# Altium schematic symbol library IC - LR30-433M22S.SchLib: 1 symbol
Pins are listed as number, name and electrical type; pins without a type are passive.

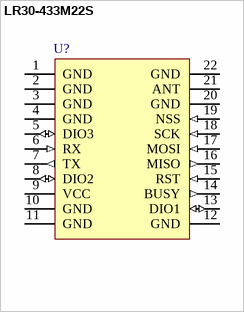
[diagram p0: symbol LR30-433M22S]

## LR30-433M22S
designator U?
footprint PE220-400M22S (20mm*14mm*2.8mm-S)
pins: 1 GND (power), 2 GND (power), 3 GND (power), 4 GND (power), 5 DIO3 (io), 6 RX (in), 7 TX (out), 8 DIO2 (io), 9 VCC (power), 10 GND (power), 11 GND (power), 12 GND (power), 13 DIO1 (io), 14 BUSY (out), 15 RST (in), 16 MISO (out), 17 MOSI (in), 18 SCK (in), 19 NSS (in), 20 GND (power), 21 ANT, 22 GND (power)